# Altium footprint library proj_lib2.PcbLib: 8 footprints
Each footprint in its own frame and in the unit in brackets; x right, y up, seen from the top. Pads: shape width x height; smd on the part's side, far side on the other; paste and mask are expansions set on the pad; w line width, h text height; cw(c..) or ccw(c..) is an arc to the next point about the centre after c.
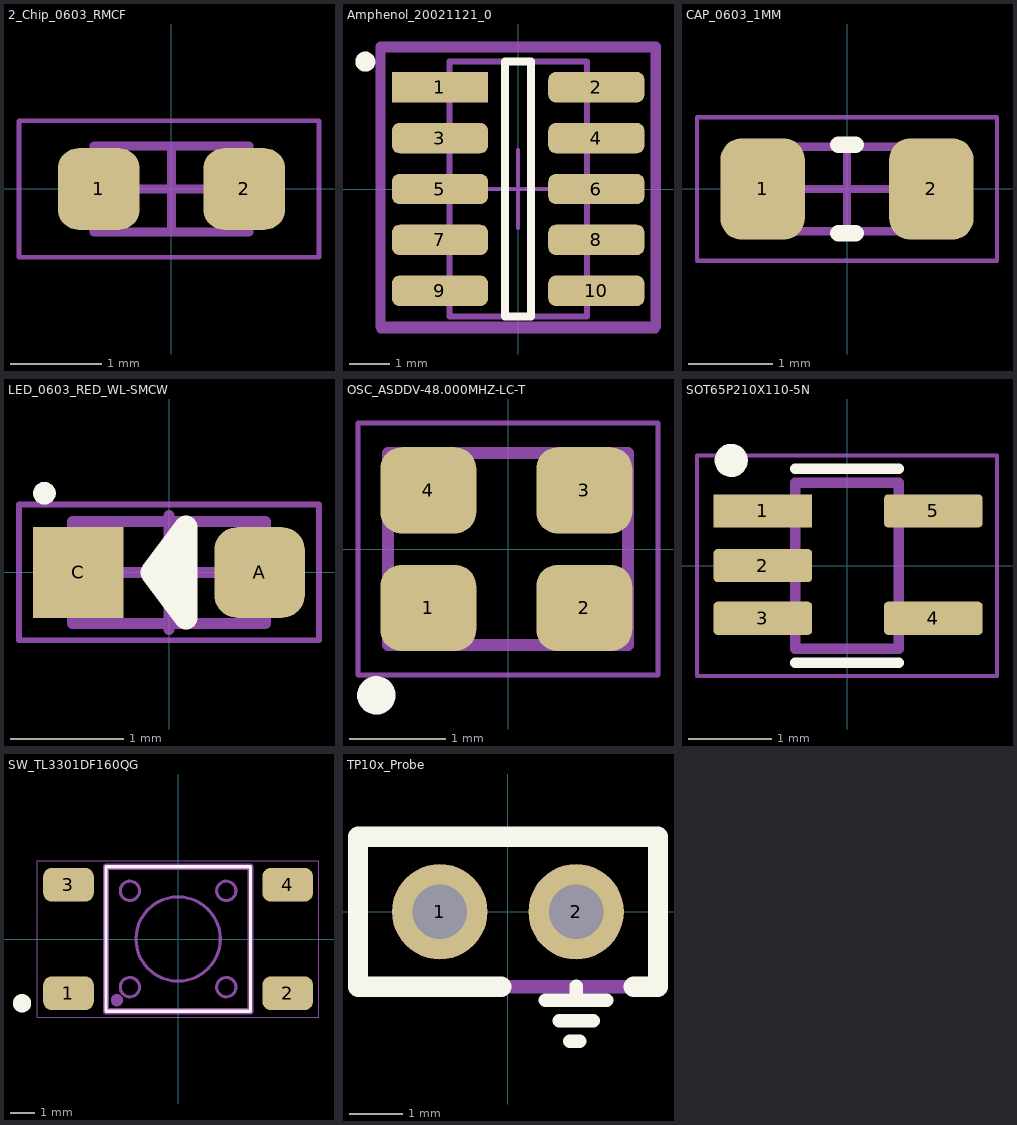
[diagram p0: the footprints below, top view; thin cyan lines are the x and y axes]

## 2_Chip_0603_RMCF [mm] "Chip Resistor, 2-Leads, Body 1.55x0.80mm, IPC Medium Density"
height 0.6
pads (2):
  rrect50% 0.9x0.9 smd: 1(-0.8,0) 2(0.8,0)
Mechanical 13:
  lines w0.1: -0.85,-0.475 -0.85,0.475 0.85,0.475 0.85,-0.475 -0.85,-0.475
  text ".Designator" at -0.723,-0.179 h0.51
Mechanical 15:
  lines w0.05: -1.677,-0.75 -1.677,0.75 1.622,0.75 1.622,-0.75 -1.677,-0.75
  lines w0.1: -0.475,0 0.475,0 ; 0,-0.475 0,0.475
3D body "2_Chip_0603_RMCF.step": height 0.6, standoff 0, extent -0.85,-0.475 0.85,0.475

## Amphenol_20021121_0 [mm]
pads (10):
  rect 2.4x0.76 smd paste+0 mask+0.051: 1(-1.95,2.54)
  rrect50% 2.4x0.76 smd paste+0 mask+0.051: 2(1.95,2.54) 3(-1.95,1.27) 4(1.95,1.27) 5(-1.95,0) 6(1.95,0) 7(-1.95,-1.27) 8(1.95,-1.27) 9(-1.95,-2.54) 10(1.95,-2.54)
Top Overlay:
  circle w0.25: c-3.81,3.175 r0.125
  lines w0.2: -0.325,-3.175 -0.325,3.175 0.325,3.175 0.325,-3.175 -0.325,-3.175
Mechanical 12:
  lines w0.15: -1.715,-3.175 -1.715,3.175 1.715,3.175 1.715,-3.175 -1.715,-3.175
Mechanical 13:
  lines w0.254: -3.429,-3.429 3.429,-3.429 3.429,3.556 -3.429,3.556 -3.429,-3.429
  text ".Designator" at -2.921,-2.413 h1.52
Mechanical 15:
  lines w0.1: -0.975,0 0.975,0 ; 0,-0.975 0,0.975
  lines w0.2: -3.429,-3.5 -3.429,3.5 3.429,3.5 3.429,-3.5 -3.429,-3.5
3D body "20021121-00010C1LF--3DModel-STEP-533217.STEP": height 4.51, standoff 0.01, extent -2.75,-3.175 2.75,3.175

## CAP_0603_1MM [mm] "Chip Capacitor, 2-Leads, Body 1.60x0.80mm, IPC Medium Density"
height 1
pads (2):
  rrect50% 1x1.2 smd: 1(-1,0) 2(1,0)
Top Overlay:
  lines w0.2: -0.1,-0.525 0.1,-0.525 ; -0.1,0.525 0.1,0.525
Mechanical 13:
  lines w0.1: -0.9,-0.5 -0.9,0.5 0.9,0.5 0.9,-0.5 -0.9,-0.5
  text ".Designator" at -0.723,-0.254 h0.5
Mechanical 15:
  lines w0.05: -1.778,-0.85 -1.778,0.85 1.778,0.85 1.778,-0.85 -1.778,-0.85
  lines w0.1: -0.5,0 0.5,0 ; 0,-0.5 0,0.5
3D body "CAP_0603_1608X10.step": height 1, standoff 0, extent -0.9,-0.5 0.9,0.5

## LED_0603_RED_WL-SMCW [mm] "SODFL, 2-Leads, Body 0.80x1.80mm, IPC Medium Density"
height 0.8
pads (2):
  rrect50% 0.8x0.8 smd: A(0.8,0)
  rect 0.8x0.8 smd: C(-0.8,0)
Top Overlay:
  circle w0.1: c-1.1,0.7 r0.05
  lines w0.2: -0.15,0 0.05,0
  lines w0.205: -0.15,0 0.15,0.4 0.15,-0.4 -0.15,0
Mechanical 13:
  lines w0.1: -0.85,-0.45 0.85,-0.45 0.85,0.45 -0.85,0.45 -0.85,-0.45
  text ".Designator" at -0.723,-0.254 h0.5
Mechanical 15:
  lines w0.05: -1.325,-0.6 1.325,-0.6 1.325,0.6 -1.325,0.6 -1.325,-0.6
  lines w0.1: -0.5,0 0.5,0 ; 0,-0.5 0,0.5
3D body "150060AS75000_STP_150060xS75000_rev1.stp": height 0.7, standoff 0, extent -0.8,-0.4 0.8,0.4

## OSC_ASDDV-48.000MHZ-LC-T [mm]
pads (4):
  rrect50% 1x0.9 smd: 1(-0.83,-0.614) 2(0.795,-0.614) 3(0.795,0.611) 4(-0.83,0.611)
Top Overlay:
  circle w0.2: c-1.372,-1.524 r0.1
Mechanical 13:
  circle w0.2: c-0.889,0.635 r0.1
  lines w0.127: -1.25,-1 1.25,-1 1.25,1 -1.25,1 -1.25,-1
  text ".Designator" at -1.072,-0.568 h0.76
Mechanical 15:
  lines w0.05: -1.562,-1.312 1.562,-1.312 1.562,1.312 -1.562,1.312 -1.562,-1.312
3D body "ASDK.STEP": height 0.95, standoff 0, extent -1.25,-1 1.25,1

## SOT65P210X110-5N [mm]
pads (5):
  rect 1.19x0.4 smd mask+0.051: 1(-1.016,0.66)
  rrect25% 1.19x0.4 smd mask+0.051: 2(-1.016,0) 3(-1.016,-0.635) 4(1.041,-0.635) 5(1.041,0.66)
Top Overlay:
  circle w0.2: c-1.397,1.27 r0.1
  lines w0.127: -0.625,-1.17 0.625,-1.17 ; -0.625,1.17 0.625,1.17
Mechanical 13:
  lines w0.127: -0.625,-1 0.625,-1 0.625,1 -0.625,1 -0.625,-1
  text ".Designator" at -0.356,-0.779 h0.64
Mechanical 15:
  lines w0.05: -1.81,-1.33 1.81,-1.33 1.81,1.33 -1.81,1.33 -1.81,-1.33
3D body "TPS22942DCKR.STEP": height 1.1, standoff 0, extent -1.05,-1 1.05,1

## SW_TL3301DF160QG [mm]
pads (4):
  rrect50% 2.1x1.4 smd: 1(-4.55,-2.25) 2(4.55,-2.25) 3(-4.55,2.25) 4(4.55,2.25)
Top Overlay:
  circle w0.508: c-6.477,-2.667 r0.127
  lines w0.127: -3,-3 -3,3 3,3 3,-3 -3,-3
Mechanical 13:
  circle w0.127: c0,0 r1.75
  circle w0.127: c-2,2 r0.4
  circle w0.127: c2,2 r0.4
  circle w0.127: c-2,-2 r0.4
  circle w0.127: c2,-2 r0.4
  circle w0.254: c-2.54,-2.54 r0.127
  lines w0.127: -3,-3 -3,3 3,3 3,-3 -3,-3
  lines w0.254: -3,-3 3,-3 3,3 -3,3 -3,-3
  text ".Designator" at -2.667,-1.482 h1.27
Mechanical 15:
  lines w0.05: -5.85,-3.25 5.85,-3.25 5.85,3.25 -5.85,3.25 -5.85,-3.25
3D body "TL3301DFxxxxG.stp": height 13.08, standoff -0.02, extent -5,-3 5,3

## TP10x_Probe [mil] "Small Probs footprint"
pads (2):
  round 70 hole 40: 1(-50,0) 2(50,0)
Top Overlay:
  lines w10: 27.5,-65 72.5,-65 ; 37.5,-80 62.5,-80 ; 45.23,-95 52.5,-95 ; 50,-65 50,-54.73
  lines w15: -5,-55 -110,-55 -110,55 110.04,55 110.04,-55 92.42,-55
Mechanical 13:
  lines w10: -110,-55 110,-55 110,55 -110,55 -110,-55
  text ".Designator" at -90,-33.34 h50